# Altium integrated library WP7113SEC.IntLib: 1 symbol
Pins are listed as number, name and electrical type; pins without a type are passive.

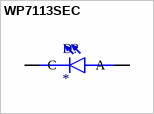
[diagram p0: symbol WP7113SEC]

## WP7113SEC
designator D?
LED Thru-Hole Orange T1-3/4 5mm Clear Lens 30mA 610nm 2500mcd Round | Kingbright WP7113SEC; SnapEDA_Link: https://www.snapeda.com/parts/WP7113SEC/Kingbright/view-part/?ref=snap; Package: Radial Kingbright; Value: *; MF: Kingbright; MP: WP7113SEC; Check_prices: https://www.snapeda.com/parts/WP7113SEC/Kingbright/view-part/?ref=eda
footprint LED_WP7113SEC
pins: A, C